# Altium schematic symbol library 0603x4 1K.Schlib: 1 symbol
Pins are listed as number, name and electrical type; pins without a type are passive.

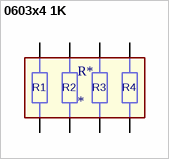
[diagram p0: symbol 0603x4 1K]

## 0603x4 1K
designator R*
Resistor Networks & Arrays 1kOhm ±5% 1/16W 0603_x4 RoHS; Value: 1K; ComponentLink1Description: LCSC - UNI-ROYAL(Uniroyal Elec) 4D03WGJ0102T5E; ComponentLink1URL: https://lcsc.com/product-detail/Resistor-Networks-Arrays_Uniroyal-Elec-4D03WGJ0102T5E_C20197.html/?href=jlc-SMT; LCSC Part #: C20197
footprint RESNET 1206-8 CONVEX (4 resistor 3.20x1.60mm, 0.7mm high)
pins: 1, 2, 3, 4, 5, 6, 7, 8
text: R1; R2; R3; R4